# Altium footprint library epson-xtal.PcbLib: 4 footprints
Each footprint in its own frame and in the unit in brackets; x right, y up, seen from the top. Pads: shape width x height; smd on the part's side, far side on the other; paste and mask are expansions set on the pad; w line width, h text height; cw(c..) or ccw(c..) is an arc to the next point about the centre after c.
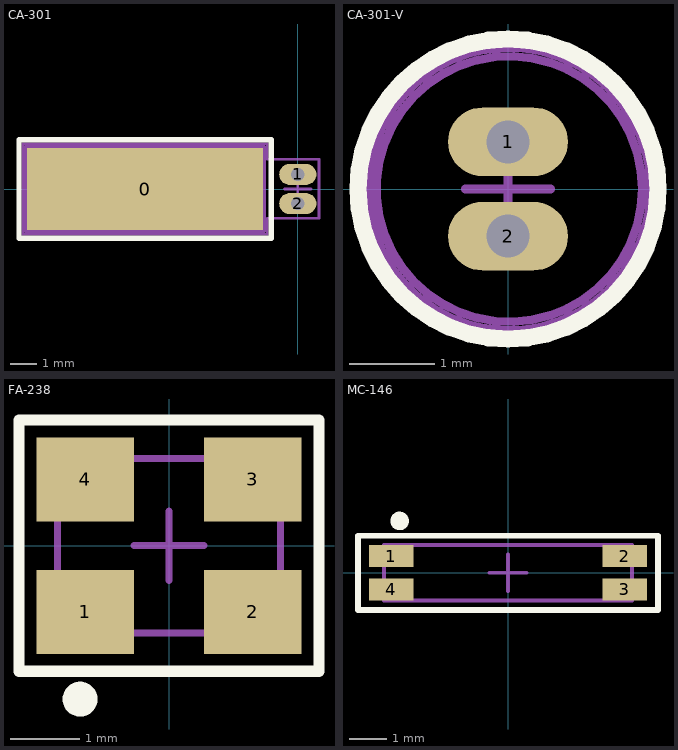
[diagram p0: the footprints below, top view; thin cyan lines are the x and y axes]

## CA-301 [mm] "Cylindrical Can, Radial"
height 3.1
pads (3):
  rect 8.9x3.1 smd: 0(-5.75,0)
  oval 1.4x0.8 hole 0.5: 1(0,0.55) 2(0,-0.55)
Top Overlay:
  lines w0.2: -10.5,-1.85 -10.5,1.85 -1,1.85 -1,-1.85 -10.5,-1.85
Mechanical 13:
  lines w0.1: -0.5,0 0.5,0 ; 0,-0.5 0,0.5 ; -10.25,-1.6 -10.25,1.6 -1.25,1.6 -1.25,-1.6 -10.25,-1.6
Mechanical 15:
  lines w0.1: 0.8,1.125 -1.15,1.125 -1.15,1.7 -10.35,1.7 -10.35,-1.7 -1.15,-1.7 -1.15,-1.1 0.8,-1.1 0.8,1.125 ; 0.8,1.125 0.8,1.125
  text ".Designator" at -5.85,-0.15 h0.5
3D body: height 3.1, standoff 0, extent -10.175,-1.55 -1.275,1.538

## CA-301-V [mm] "Crystal Cylindrical Can, Radial 3.1mmx8.9mm"
height 10
pads (2):
  oval 1.4x0.8 hole 0.5: 1(0,0.55) 2(0,-0.55)
Top Overlay:
  circle w0.2: c0,0 r1.75
Mechanical 13:
  circle w0.1: c0.015,0 r1.55
  lines w0.1: -0.5,0 0.5,0 ; 0,-0.5 0,0.5
Mechanical 15:
  circle w0.1: c0.015,0 r1.65
  text ".Designator" at -1.2,-0.4 h0.8
3D body: height 9.2, standoff -1.95, extent -1.55,-1.55 1.55,1.55

## FA-238 [mm]
height 0.7
pads (4):
  rect 1.4x1.2 smd: 1(-1.2,-0.95) 2(1.2,-0.95) 3(1.2,0.95) 4(-1.2,0.95)
Top Overlay:
  circle w0.25: c-1.275,-2.2 r0.125
  lines w0.16: -2.15,-1.8 -2.15,1.8 2.15,1.8 2.15,-1.8 -2.15,-1.8
Mechanical 13:
  lines w0.1: -0.5,0 0.5,0 ; 0,-0.5 0,0.5 ; -1.6,-1.25 -1.6,1.25 1.6,1.25 1.6,-1.25 -1.6,-1.25
Mechanical 15:
  lines w0.1: -2.15,-1.8 -2.15,1.8 2.15,1.8 2.15,-1.8 -2.15,-1.8
  text ".Designator" at -1.85,-0.15 h0.5
3D body: height 0.6, standoff 0, extent -1.6,-1.25 1.6,1.25
3D body: height 0.7, standoff 0.6, extent -1.55,-1.2 1.55,1.2

## MC-146 [mm]
height 1.4
pads (4):
  rect 1.2x0.6 smd: 1(-3.15,0.45) 2(3.15,0.45) 3(3.15,-0.45) 4(-3.15,-0.45)
Top Overlay:
  circle w0.25: c-2.925,1.4 r0.125
  lines w0.16: -4.05,-1 4.05,-1 4.05,1 -4.05,1 -4.05,-1
Mechanical 13:
  lines w0.1: -0.5,0 0.5,0 ; 0,-0.5 0,0.5 ; -3.35,-0.75 3.35,-0.75 3.35,0.75 -3.35,0.75 -3.35,-0.75
Mechanical 15:
  lines w0.1: -4.05,-1 4.05,-1 4.05,1 -4.05,1 -4.05,-1
  text ".Designator" at -2.6,-0.15 h0.5
3D body: height 0.2, standoff 0, extent -3.5,0.3 -3.1,0.6
3D body: height 0.2, standoff 0, extent -3.5,-0.6 -3.1,-0.3
3D body: height 0.2, standoff 0, extent 3.1,-0.6 3.5,-0.3
3D body: height 0.2, standoff 0, extent 3.1,0.3 3.5,0.6
3D body: height 1.4, standoff 0.05, extent -3.35,-0.75 3.35,0.75